# Altium footprint library TO220.PcbLib: 3 footprints
Each footprint in its own frame and in the unit in brackets; x right, y up, seen from the top. Pads: shape width x height; smd on the part's side, far side on the other; paste and mask are expansions set on the pad; w line width, h text height; cw(c..) or ccw(c..) is an arc to the next point about the centre after c.
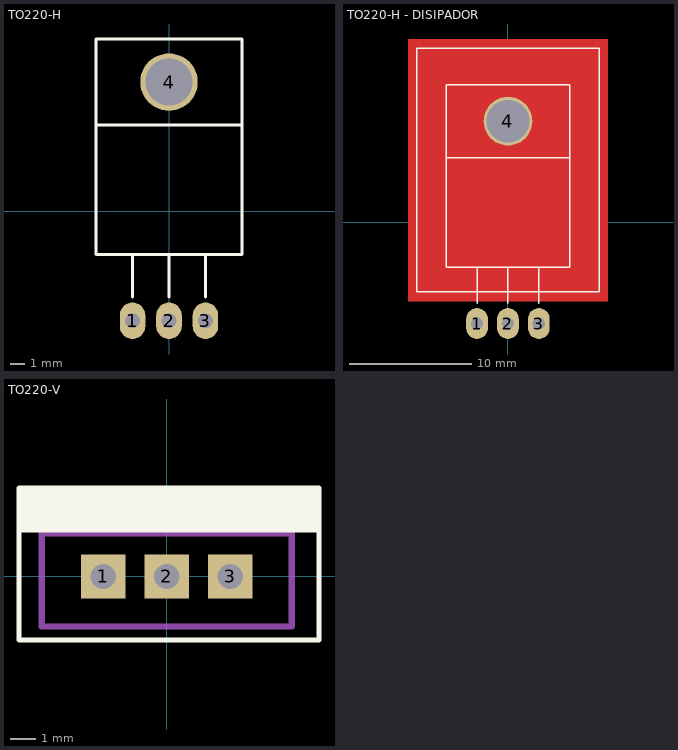
[diagram p0: the footprints below, top view; thin cyan lines are the x and y axes]

## TO220-H [mil]
pads (4):
  oval 70x100 hole 40: 1(-100,-300) 2(0,-300) 3(100,-300)
  round 157.48 hole 127.95: 4(0,354.33)
Top Overlay:
  lines w7.87: -200,236.22 200,236.22 ; -100,-235 -100,-118.11 ; 0,-235 0,-118.11 ; 100,-235 100,-118.11 ; -200,-118.11 -200,472.44 200,472.44 200,-118.11 -200,-118.11
3D body: height 175.2, standoff -70.28, extent -200,-307.53 200,451.53

## TO220-H - DISIPADOR [mm]
pads (4):
  oval 1.778x2.54 hole 1.016: 1(-2.54,-8.31) 2(0,-8.31) 3(2.54,-8.31)
  round 4 hole 3.5: 4(0,8.31)
Top Layer:
  pour cut-out: -8.184,-6.494 8.176,-6.494 8.191,15.056 -8.184,15.056
Top Overlay:
  lines w0.127: -5.08,5.31 5.08,5.31 ; -2.54,-6.659 -2.54,-3.69 ; 0,-6.659 0,-3.69 ; 2.54,-6.659 2.54,-3.69 ; -7.5,-5.69 -7.5,14.31 7.5,14.31 7.5,-5.69 -7.5,-5.69 ; -5.08,-3.69 5.08,-3.69 5.08,11.31 -5.08,11.31 -5.08,-3.69
3D body: height 4.45, standoff -1.79, extent -5.08,-8.501 5.08,10.779

## TO220-V [mil]
pads (3):
  rect 70x70 hole 40: 1(-100,0) 2(0,0) 3(100,0)
Top Overlay:
  region: -232.44,139.37 -232.44,70 240,70 240,139.37
  lines w8: -232.44,-100 -232.44,139.37 240,139.37 240,-100 -232.44,-100
Mechanical 1:
  lines w10: -196.85,68.11 196.85,68.11 ; -196.85,-78.74 -196.85,118.11 196.85,118.11 196.85,-78.74 -196.85,-78.74
3D body: height 708.66, standoff 433.07, extent -196.85,68.11 196.85,118.11
3D body: height 433.07, standoff 118.11, extent -196.85,-78.74 196.85,118.11
3D body: height 78.74, standoff -78.74, extent 84.25,-15.75 115.75,15.75
3D body: height 118.11, standoff 0, extent 75,-15.75 125,15.75
3D body: height 78.74, standoff -78.74, extent -15.75,-15.75 15.75,15.75
3D body: height 118.11, standoff 0, extent -25,-15.75 25,15.75
3D body: height 78.74, standoff -78.74, extent -115.75,-15.75 -84.25,15.75
3D body: height 118.11, standoff 0, extent -125,-15.75 -75,15.75